# Altium schematic symbol library RC0603JR-072KL.SchLib: 1 symbol
Pins are listed as number, name and electrical type; pins without a type are passive.

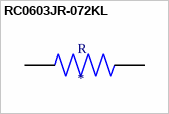
[diagram p0: symbol RC0603JR-072KL]

## RC0603JR-072KL
designator R
2 kOhms Â±5% 0.1W, 1/10W Chip Resistor 0603 (1608 Metric) Moisture Resistant Thick Film; MF: Yageo; MP: RC0603JR-072KL; Value: *; SnapEDA_Link: https://www.snapeda.com/parts/RC0603JR-072KL/Yageo/view-part/106010/?ref=snap; Package: 1608 Yageo; Digi-Key_Part_Number: 311-2.0KGRCT-ND
footprint RESC1608X55N
pins: 1, 2